# Altium integrated library 77311-101-02LF.IntLib: 1 symbol
Pins are listed as number, name and electrical type; pins without a type are passive.

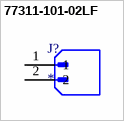
[diagram p0: symbol 77311-101-02LF]

## 77311-101-02LF
designator J?
CONN HEADER VERT 2POS 2.54MM; MF: Amphenol ICC (FCI); MP: 77311-101-02LF; Package: None; Purchase-URL: https://pricing.snapeda.com/search/part/77311-101-02LF/?ref=eda; Value: *; Availability: In Stock; SnapEDA_Link: https://www.snapeda.com/parts/77311-101-02LF/Amphenol+FCI/view-part/?ref=snap; Price: None; Check_prices: https://www.snapeda.com/parts/77311-101-02LF/Amphenol+FCI/view-part/?ref=eda
footprint AMPHENOL_77311-101-02LF
pins: 1, 2